# Altium footprint library 原子战舰STM32F103ZET61.PcbLib: 20 footprints (part 2 of 2)
Each footprint in its own frame and in the unit in brackets; x right, y up, seen from the top. Pads: shape width x height; smd on the part's side, far side on the other; paste and mask are expansions set on the pad; w line width, h text height; cw(c..) or ccw(c..) is an arc to the next point about the centre after c.
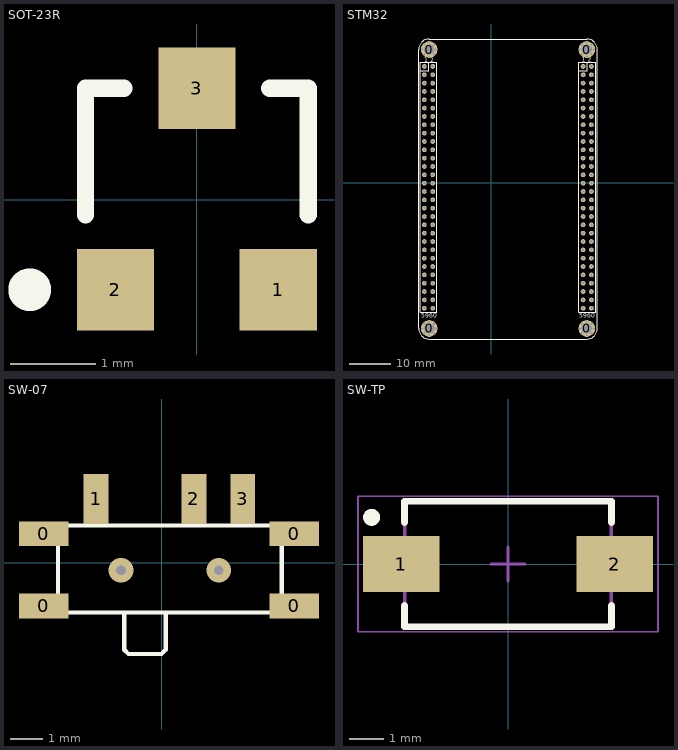
[diagram p1: the footprints below, top view; thin cyan lines are the x and y axes]

## SOT-23R [mm]
pads (3):
  rect 0.9x0.95 smd: 1(0.95,-1.048) 2(-0.95,-1.048) 3(0,1.302)
Top Overlay:
  circle w0.25: c-1.95,-1.048 r0.125
  lines w0.2: -1.3,-0.173 -1.3,1.302 -0.85,1.302 ; 0.85,1.302 1.3,1.302 1.3,-0.173

## STM32 [mil]
pads (156):
  round 19.68 hole 19.68: 0(-650,-1375) 0(-650,1260) 0(-630,-1420) 0(-630,-1330) 0(-630,1215) 0(-630,1305) 0(-585,-1440) 0(-585,-1310) 0(-585,1195) 0(-585,1325) 0(-540,-1420) 0(-540,-1330) 0(-540,1215) 0(-540,1305) 0(-520,-1375) 0(-520,1260) 0(840,-1375) 0(840,1260) 0(860,-1420) 0(860,-1330) 0(860,1215) 0(860,1305) 0(905,-1440) 0(905,-1310) 0(905,1195) 0(905,1325) 0(950,-1420) 0(950,-1330) 0(950,1215) 0(950,1305) 0(970,-1375) 0(970,1260)
  round 157.48 hole 98.43: 0(-585,-1375) 0(-585,1260) 0(905,-1375) 0(905,1260)
  round 45 hole 28: 1(-630,1100) 2(-551.26,1100) 3(-630,1021.26) 4(-551.26,1021.26) 5(-630,942.52) 6(-551.26,942.52) 7(-630,863.78) 8(-551.26,863.78) 9(-630,785.04) 10(-551.26,785.04) 11(-630,706.3) 12(-551.26,706.3) 13(-630,627.56) 14(-551.26,627.56) 15(-630,548.82) 16(-551.26,548.82) 17(-630,470.08) 18(-551.26,470.08) 19(-630,391.34) 20(-551.26,391.34) 21(-630,312.6) 22(-551.26,312.6) 23(-630,233.86) 24(-551.26,233.86) 25(-630,155.12) 26(-551.26,155.12) 27(-630,76.38) 28(-551.26,76.38) 29(-630,-2.36) 30(-551.26,-2.36) 31(-630,-81.1) 32(-551.26,-81.1) 33(-630,-159.84) 34(-551.26,-159.84) 35(-630,-238.58) 36(-551.26,-238.58) 37(-630,-317.32) 38(-551.26,-317.32) 39(-630,-396.06) 40(-551.26,-396.06) 41(-630,-474.8) 42(-551.26,-474.8) 43(-630,-553.54) 44(-551.26,-553.54) 45(-630,-632.28) 46(-551.26,-632.28) 47(-630,-711.02) 48(-551.26,-711.02) 49(-630,-789.76) 50(-551.26,-789.76) 51(-630,-868.5) 52(-551.26,-868.5) 53(-630,-947.24) 54(-551.26,-947.24) 55(-630,-1025.98) 56(-551.26,-1025.98) 57(-630,-1104.72) 58(-551.26,-1104.72) 59(-630,-1183.46) 60(-551.26,-1183.46) 61(869,1100) 62(869,1021.26) 63(869,942.52) 64(869,863.78) 65(869,785.04) 66(869,706.3) 67(869,627.56) 68(869,548.82) 69(869,470.08) 70(869,391.34) 71(869,312.6) 72(869,233.86) 73(869,155.12) 74(869,76.38) 75(869,-2.36) 76(869,-81.1) 77(869,-159.84) 78(869,-238.58) 79(869,-317.32) 80(869,-396.06) 81(869,-474.8) 82(869,-553.54) 83(869,-632.28) 84(869,-711.02) 85(869,-789.76) 86(869,-868.5) 87(869,-947.24) 88(869,-1025.98) 89(869,-1104.72) 90(869,-1183.46) 91(947.74,-1183.46) 92(947.74,-1104.72) 93(947.74,-1025.98) 94(947.74,-947.24) 95(947.74,-868.5) 96(947.74,-789.76) 97(947.74,-711.02) 98(947.74,-632.28) 99(947.74,-553.54) 100(947.74,-474.8) 101(947.74,-396.06) 102(947.74,-317.32) 103(947.74,-238.58) 104(947.74,-159.84) 105(947.74,-81.1) 106(947.74,-2.36) 107(947.74,76.38) 108(947.74,155.12) 109(947.74,233.86) 110(947.74,312.6) 111(947.74,391.34) 112(947.74,470.08) 113(947.74,548.82) 114(947.74,627.56) 115(947.74,706.3) 116(947.74,785.04) 117(947.74,863.78) 118(947.74,942.52) 119(947.74,1021.26) 120(947.74,1100)
Top Overlay:
  lines w10: -669.37,1060.63 -590.63,1060.63 -590.63,1139.37 ; 829.63,1060.63 908.37,1060.63 908.37,1139.37 ; -684.25,-1375 ccw(c-585,-1375) -585,-1474.25 905,-1474.25 ccw(c905,-1375) 1004.25,-1375 1004.25,1260 ccw(c905,1260) 905,1359.25 -585,1359.25 ccw(c-585,1260) -684.25,1260 -684.25,-1375 ; -669.37,-1222.83 -669.37,1139.37 -511.89,1139.37 -511.89,-1222.83 -669.37,-1222.83 ; 829.63,-1222.83 829.63,1139.37 987.11,1139.37 987.11,-1222.83 829.63,-1222.83
  text "5960" at 835,-1275 h40
  text "5960" at -660,-1275 h40
  text "1 2" at -630,1139.37 h40
  text "1 2" at 855,1145 h40

## SW-07 [mil]
pads (7):
  rect 60x30 smd: 0(-142,-52) 0(-142,35) 0(160,-52) 0(160,35)
  rect 30x60 smd: 1(-79,77) 2(39,77) 3(98,77)
via 69,-9 diameter 30 hole 11.81
via -49,-9 diameter 30 hole 11.81
Top Overlay:
  lines w5: -45,-60 -45,-105 -40,-110 0,-110 5,-105 5,-60 ; -125,-60 -125,45 145,45 145,-60 -125,-60
3D body: height 55.12, standoff -19.68, extent -141.57,-111.17 161.58,77.8

## SW-TP [mm]
pads (2):
  rect 2.25x1.65 smd: 1(-3.15,0) 2(3.15,0)
Top Overlay:
  circle w0.25: c-4.025,1.375 r0.125
  lines w0.2: -3.05,-1.225 -3.05,-1.85 3.05,-1.85 3.05,-1.225 ; -3.05,1.225 -3.05,1.85 3.05,1.85 3.05,1.225
Mechanical 13:
  lines w0.1: -3.05,-1.85 -3.05,1.85 3.05,1.85 3.05,-1.85 -3.05,-1.85
Mechanical 15:
  lines w0.05: -4.425,-2 -4.425,2 4.425,2 4.425,-2 -4.425,-2
  lines w0.1: -0.5,0 0.5,0 ; 0,-0.5 0,0.5
3D body: height 2.5, standoff 0, extent -4,-1.854 4,1.846